# EAGLE library part 10PIN(L) (library connector)
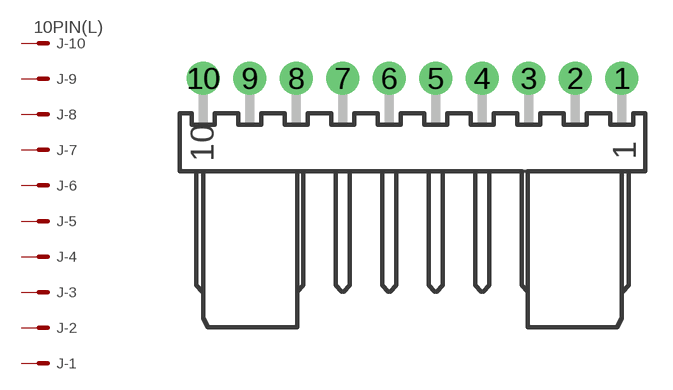
[diagram p1: symbol with the pads of 10PL; footprint 10PL]

Designator prefix J; gates -10=MV -9=M -8=M -7=M -6=M -5=M -4=M -3=M -2=M -1=M

## 10PIN(L)  [10PL]
1  -1:S  pas
2  -2:S  pas
3  -3:S  pas
4  -4:S  pas
5  -5:S  pas
6  -6:S  pas
7  -7:S  pas
8  -8:S  pas
9  -9:S  pas
10  -10:S  pas

## Footprint 10PL (pad centres in mm)
drill 1 pad 1.8: 1 11.43,3.81; 2 8.89,3.81; 3 6.35,3.81; 4 3.81,3.81; 5 1.27,3.81; 6 -1.27,3.81; 7 -3.81,3.81; 8 -6.35,3.81; 9 -8.89,3.81; 10 -11.43,3.81